# Altium schematic symbol library LED_1206_GREEN.SchLib: 1 symbol
Pins are listed as number, name and electrical type; pins without a type are passive.

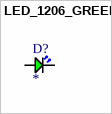
[diagram p0: symbol LED_1206_GREEN]

## LED_1206_GREEN
designator D?
20mA 225mcd Colorless Transparent Lens Positive Stick 565nm~575nm Green-yellow 120° 50mW 2.4V 1206 LED Indication - Discrete ROHS; Manufacturer: XINGLIGHT; Manufacturer Part: XL-3216SYGC; Forward Current: 20mA; Forward Voltage: 2.4V; ComponentLink1Description: Datasheet; ComponentLink1URL: https://www.lcsc.com/datasheet/lcsc_datasheet_2504101957_XINGLIGHT-XL-3216SYGC_C965826.pdf
footprint LED_1206_GREEN
pins: 1, 2